# EAGLE library part STACKDUINO_HEADERS (library edebill)
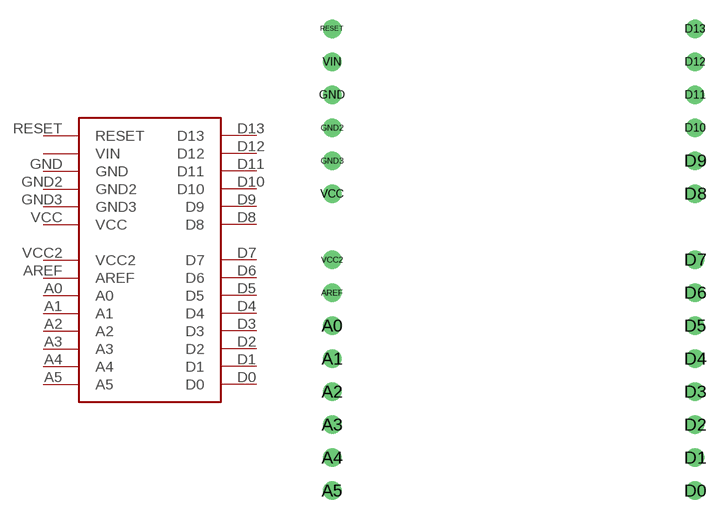
[diagram p5: symbol with the pads of STACKDUINO_HEADERS; footprint STACKDUINO_HEADERS]

Designator prefix -

## STACKDUINO_HEADERS  [STACKDUINO_HEADERS]
A0  A0
A1  A1
A2  A2
A3  A3
A4  A4
A5  A5
AREF  AREF
D0  D0
D1  D1
D2  D2
D3  D3
D4  D4
D5  D5
D6  D6
D7  D7
D8  D8
D9  D9
D10  D10
D11  D11
D12  D12
D13  D13
GND  GND  pwr
GND2  GND2
GND3  GND3
RESET  RESET  in
VCC  VCC
VCC2  VCC2
VIN  VIN  pwr

## Footprint STACKDUINO_HEADERS (pad centres in mm)
drill 0.8 pad 1.422 round: A0 -13.97,-13.97; A1 -13.97,-16.51; A2 -13.97,-19.05; A3 -13.97,-21.59; A4 -13.97,-24.13; A5 -13.97,-26.67; AREF -13.97,-11.43; D0 13.97,-26.67; D1 13.97,-24.13; D2 13.97,-21.59; D3 13.97,-19.05; D4 13.97,-16.51; D5 13.97,-13.97; D6 13.97,-11.43; D7 13.97,-8.89; D8 13.97,-3.81; D9 13.97,-1.27; D10 13.97,1.27; D11 13.97,3.81; D12 13.97,6.35; D13 13.97,8.89; GND -13.97,3.81; GND2 -13.97,1.27; GND3 -13.97,-1.27; RESET -13.97,8.89; VCC -13.97,-3.81; VCC2 -13.97,-8.89; VIN -13.97,6.35